# Altium integrated library Microchip Power Management CPU-System Supervisor.IntLib: 428 symbols (part 11 of 12)
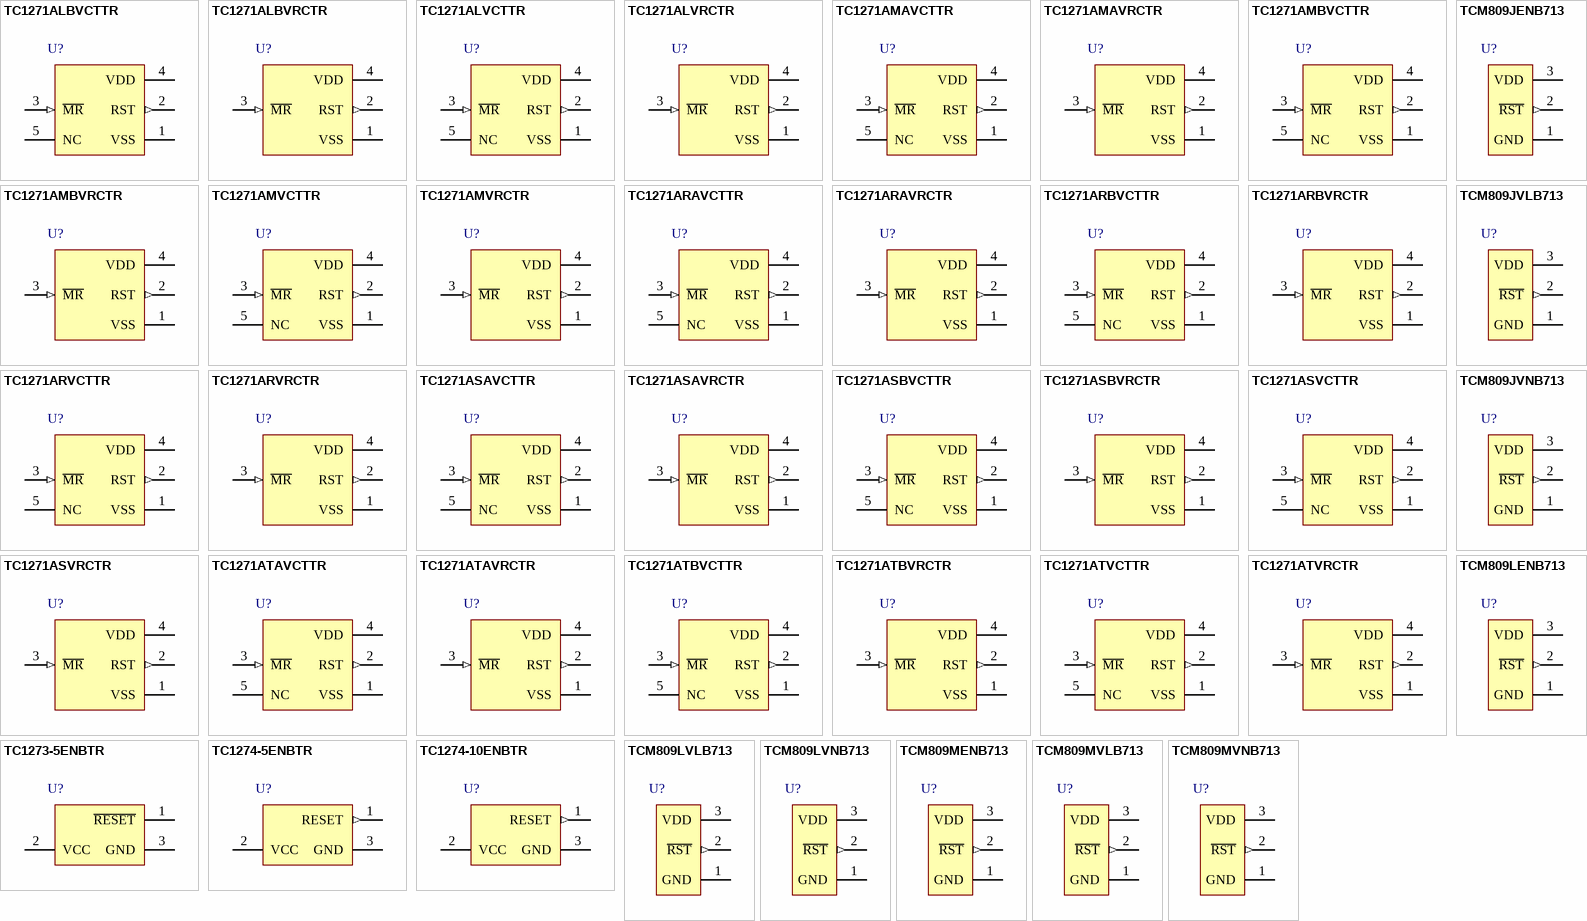
[diagram p20: symbols TC1271ALBVCTTR to TCM809MVNB713]

## TC1271ATBVRCTR
designator U?
Voltage Supervisor with Manual Reset Input, 4-Pin SOT-143, VTRIP:3.00V (min.) / 3.08V (typ.) / 3.15V (max.), Tape and Reel; Manufacturer: Microchip; PartNumber: TC1271ATBVRCTR; DatasheetVersion: revB, Jun-2007; PackageVersion: revBB, Aug-2009; PackageReference: SOT-143-RC4; PackageDescription: 4-Lead Plastic Small Outline Transistor (RC) [SOT-143]; Mounting Technology: Surface Mount; Code_IPC: SOT143; ComponentLink1Description: Manufacturer URL; ComponentLink1URL: http://www.microchip.com/; ComponentLink2Description: Datasheet; ComponentLink2URL: http://ww1.microchip.com/downloads/en/DeviceDoc/22035b.pdf; ComponentLink3Description: Package Specification; ComponentLink3URL: http://www.microchip.com/stellent/groups/techpub_sg/documents/packagingspec/en012702.pdf
footprint SOT-143-RC4_N (SOT143, 4-Leads, Body 2.9x1.3mm, Pitch 1.9mm, Lead Span 2.4mm, IPC Medium Density)
footprint SOT-143-RC4_L (SOT143, 4-Leads, Body 2.9x1.3mm, Pitch 1.9mm, Lead Span 2.4mm, IPC High Density)
footprint SOT-143-RC4_M (SOT143, 4-Leads, Body 2.9x1.3mm, Pitch 1.9mm, Lead Span 2.4mm, IPC Low Density)
pins: 1 VSS (power), 2 RST (out), 3 ~{MR} (in), 4 VDD (power)

## TC1271ATVCTTR
designator U?
Voltage Supervisor with Manual Reset Input, 5-Pin SOT-23, VTRIP:3.00V (min.) / 3.08V (typ.) / 3.15V (max.), Tape and Reel; Manufacturer: Microchip; PartNumber: TC1271ATVCTTR; DatasheetVersion: revB, Jun-2007; PackageVersion: revBB, Aug-2009; PackageReference: SOT-23-CT5; PackageDescription: 5-Lead Plastic Small Outline Transistor (CT) [SOT-23]; Supplier 1: Digi-Key; Supplier Part Number 1: TC1271ATVCTTR-ND; Supplier 2: Mouser; Supplier Part Number 2: 579-TC1271ATVCTTR; Mounting Technology: Surface Mount; Code_IPC: SOT23-5; ComponentLink1Description: Manufacturer URL; ComponentLink1URL: http://www.microchip.com/; ComponentLink2Description: Datasheet; ComponentLink2URL: http://ww1.microchip.com/downloads/en/DeviceDoc/22035b.pdf; ComponentLink3Description: Package Specification; ComponentLink3URL: http://www.microchip.com/stellent/groups/techpub_sg/documents/packagingspec/en012702.pdf
footprint SOT-23-CT5_N (SOT23, 5-Leads, Body 2.9x1.6mm, Pitch 0.95mm, Lead Span 2.7mm, IPC Medium Density)
footprint SOT-23-CT5_L (SOT23, 5-Leads, Body 2.9x1.6mm, Pitch 0.95mm, Lead Span 2.7mm, IPC High Density)
footprint SOT-23-CT5_M (SOT23, 5-Leads, Body 2.9x1.6mm, Pitch 0.95mm, Lead Span 2.7mm, IPC Low Density)
pins: 1 VSS (power), 2 RST (out), 3 ~{MR} (in), 4 VDD (power), 5 NC

## TC1271ATVRCTR
designator U?
Voltage Supervisor with Manual Reset Input, 4-Pin SOT-143, VTRIP:3.00V (min.) / 3.08V (typ.) / 3.15V (max.), Tape and Reel; Manufacturer: Microchip; PartNumber: TC1271ATVRCTR; DatasheetVersion: revB, Jun-2007; PackageVersion: revBB, Aug-2009; PackageReference: SOT-143-RC4; PackageDescription: 4-Lead Plastic Small Outline Transistor (RC) [SOT-143]; Supplier 1: Digi-Key; Supplier Part Number 1: TC1271ATVRCTR-ND; Supplier 2: Mouser; Supplier Part Number 2: 579-TC1271ATVRCTR; Mounting Technology: Surface Mount; Code_IPC: SOT143; ComponentLink1Description: Manufacturer URL; ComponentLink1URL: http://www.microchip.com/; ComponentLink2Description: Datasheet; ComponentLink2URL: http://ww1.microchip.com/downloads/en/DeviceDoc/22035b.pdf; ComponentLink3Description: Package Specification; ComponentLink3URL: http://www.microchip.com/stellent/groups/techpub_sg/documents/packagingspec/en012702.pdf
footprint SOT-143-RC4_N (SOT143, 4-Leads, Body 2.9x1.3mm, Pitch 1.9mm, Lead Span 2.4mm, IPC Medium Density)
footprint SOT-143-RC4_L (SOT143, 4-Leads, Body 2.9x1.3mm, Pitch 1.9mm, Lead Span 2.4mm, IPC High Density)
footprint SOT-143-RC4_M (SOT143, 4-Leads, Body 2.9x1.3mm, Pitch 1.9mm, Lead Span 2.4mm, IPC Low Density)
pins: 1 VSS (power), 2 RST (out), 3 ~{MR} (in), 4 VDD (power)

## TC1273-5ENBTR
designator U?
Reset Monitors for 5 V Systems, 17 uA Supply Current, Open Drain Output, 1.2 to 5.5 V, -40 to 85 degC, 3-pin SOT-23 (TT3), Tape and Reel; Manufacturer: Microchip; PartNumber: TC1273-5ENBTR; DatasheetVersion: Rev. C; PackageVersion: C04-104B; PackageReference: SOT-23-TT3; PackageDescription: 3-Lead Plastic Small Outline Transistor, 2.9 x 1.3 mm Body, 0.95 mm Pitch; Supplier 1: Digi-Key; Supplier Part Number 1: TC1273-5ENBTR-ND; Supplier 2: Digi-Key; Supplier Part Number 2: TC1273-5ENBCT-ND; Supplier 3: Digi-Key; Supplier Part Number 3: TC1273-5ENBDKR-ND; Supplier 4: Mouser; Supplier Part Number 4: 579-TC1273-5ENBTR; Mounting Technology: Surface Mount; ComponentLink1Description: Manufacturer URL; ComponentLink1URL: http://www.microchip.com; ComponentLink2Description: Datasheet; ComponentLink2URL: http://ww1.microchip.com/downloads/en/DeviceDoc/21382c.pdf; ComponentLink3Description: Package Specification; ComponentLink3URL: http://www.microchip.com/stellent/groups/techpub_sg/documents/packagingspec/en012702.pdf; ComponentLink4Description: Product URL; ComponentLink4URL: http://www.microchip.com/TC1273
footprint MCHP-SOT-23-TT3_N (SOT23, 3-Leads, Body 2.86x1.28mm, Pitch 0.95mm, IPC Medium Density)
footprint MCHP-SOT-23-TT3_L (SOT23, 3-Leads, Body 2.86x1.28mm, Pitch 0.95mm, IPC High Density)
footprint MCHP-SOT-23-TT3_M (SOT23, 3-Leads, Body 2.86x1.28mm, Pitch 0.95mm, IPC Low Density)
pins: 1 ~{RESET} (oc), 2 VCC (power), 3 GND (power)

## TC1274-5ENBTR
designator U?
Reset Monitors for 5 V Systems, 17 uA Supply Current, Push-Pull Output, 1.8 to 5.5 V, -40 to 85 degC, 3-pin SOT-23 (TT3), Tape and Reel; Manufacturer: Microchip; PartNumber: TC1274-5ENBTR; DatasheetVersion: Rev. C; PackageVersion: C04-104B; PackageReference: SOT-23-TT3; PackageDescription: 3-Lead Plastic Small Outline Transistor, 2.9 x 1.3 mm Body, 0.95 mm Pitch; Supplier 1: Digi-Key; Supplier Part Number 1: TC1274-5ENBTR-ND; Supplier 2: Digi-Key; Supplier Part Number 2: TC1274-5ENBCT-ND; Supplier 3: Digi-Key; Supplier Part Number 3: TC1274-5ENBDKR-ND; Supplier 4: Mouser; Supplier Part Number 4: 579-TC1274-5ENBTR; Mounting Technology: Surface Mount; ComponentLink1Description: Manufacturer URL; ComponentLink1URL: http://www.microchip.com; ComponentLink2Description: Datasheet; ComponentLink2URL: http://ww1.microchip.com/downloads/en/DeviceDoc/21382c.pdf; ComponentLink3Description: Package Specification; ComponentLink3URL: http://www.microchip.com/stellent/groups/techpub_sg/documents/packagingspec/en012702.pdf; ComponentLink4Description: Product URL; ComponentLink4URL: http://www.microchip.com/TC1274
footprint MCHP-SOT-23-TT3_N (SOT23, 3-Leads, Body 2.86x1.28mm, Pitch 0.95mm, IPC Medium Density)
footprint MCHP-SOT-23-TT3_L (SOT23, 3-Leads, Body 2.86x1.28mm, Pitch 0.95mm, IPC High Density)
footprint MCHP-SOT-23-TT3_M (SOT23, 3-Leads, Body 2.86x1.28mm, Pitch 0.95mm, IPC Low Density)
pins: 1 RESET (out) "RESET Output", 2 VCC (power) "Supply voltage (1.8V to 5.5V TC1274)", 3 GND (power) "Ground"

## TC1274-10ENBTR
designator U?
Reset Monitors for 5 V Systems, 17 uA Supply Current, Push-Pull Output, 1.8 to 5.5 V, -40 to 85 degC, 3-pin SOT-23 (TT3), Tape and Reel; Manufacturer: Microchip; PartNumber: TC1274-10ENBTR; DatasheetVersion: Rev. C; PackageVersion: C04-104B; PackageReference: SOT-23-TT3; PackageDescription: 3-Lead Plastic Small Outline Transistor, 2.9 x 1.3 mm Body, 0.95 mm Pitch; Supplier 1: Digi-Key; Supplier Part Number 1: TC1274-10ENBTR-ND; Supplier 2: Mouser; Supplier Part Number 2: 579-TC1274-10ENBTR; Mounting Technology: Surface Mount; ComponentLink1Description: Manufacturer URL; ComponentLink1URL: http://www.microchip.com; ComponentLink2Description: Datasheet; ComponentLink2URL: http://ww1.microchip.com/downloads/en/DeviceDoc/21382c.pdf; ComponentLink3Description: Package Specification; ComponentLink3URL: http://www.microchip.com/stellent/groups/techpub_sg/documents/packagingspec/en012702.pdf; ComponentLink4Description: Product URL; ComponentLink4URL: http://www.microchip.com/TC1274
footprint MCHP-SOT-23-TT3_N (SOT23, 3-Leads, Body 2.86x1.28mm, Pitch 0.95mm, IPC Medium Density)
footprint MCHP-SOT-23-TT3_L (SOT23, 3-Leads, Body 2.86x1.28mm, Pitch 0.95mm, IPC High Density)
footprint MCHP-SOT-23-TT3_M (SOT23, 3-Leads, Body 2.86x1.28mm, Pitch 0.95mm, IPC Low Density)
pins: 1 RESET (out) "RESET Output", 2 VCC (power) "Supply voltage (1.8V to 5.5V TC1274)", 3 GND (power) "Ground"

## TCM809JENB713
designator U?
3-Pin Microcontroller Reset Monitors, 3-Pin SOT-23, Extended Temperature; Manufacturer: Microchip; PartNumber: TCM809JENB713; DatasheetVersion: revD, Mar-2005; PackageVersion: revBB, Aug-2009; PackageReference: SOT-23-NB3; PackageDescription: 3-Lead Plastic Small Outline Transistor (NB) [SOT-23]; Supplier 1: Digi-Key; Supplier Part Number 1: TCM809JENB713-ND; Supplier 2: Newark; Supplier Part Number 2: 27C9023; Supplier 3: Mouser; Supplier Part Number 3: 579-TCM809JENB713; Mounting Technology: Surface Mount; Code_IPC: SOT23-3; ComponentLink1Description: Manufacturer URL; ComponentLink1URL: http://www.microchip.com/; ComponentLink2Description: Datasheet; ComponentLink2URL: http://ww1.microchip.com/downloads/en/DeviceDoc/21661d.pdf; ComponentLink3Description: Package Specification; ComponentLink3URL: http://www.microchip.com/stellent/groups/techpub_sg/documents/packagingspec/en012702.pdf
footprint SOT-23-NB3_N (SOT23, 3-Leads, Body 2.9x1.3mm, Pitch 0.95mm, Lead Span 2.4mm, IPC Medium Density)
footprint SOT-23-NB3_L (SOT23, 3-Leads, Body 2.9x1.3mm, Pitch 0.95mm, Lead Span 2.4mm, IPC High Density)
footprint SOT-23-NB3_M (SOT23, 3-Leads, Body 2.9x1.3mm, Pitch 0.95mm, Lead Span 2.4mm, IPC Low Density)
pins: 1 GND (power), 2 ~{RST} (out), 3 VDD (power)

## TCM809JVLB713
designator U?
3-Pin Microcontroller Reset Monitors, 3-Pin SC-70; Manufacturer: Microchip; PartNumber: TCM809JVLB713; DatasheetVersion: revD, Mar-2005; PackageVersion: revBB, Aug-2009; PackageReference: SC70-LB3; PackageDescription: 3-Lead Plastic Small Outline Transistor (LB) [SC70]; Supplier 1: Digi-Key; Supplier Part Number 1: TCM809JVLB713TR-ND; Supplier 2: Digi-Key; Supplier Part Number 2: TCM809JVLB713CT-ND; Supplier 3: Digi-Key; Supplier Part Number 3: TCM809JVLB713DKR-ND; Supplier 4: Farnell; Supplier Part Number 4: 1840930; Supplier 5: Newark; Supplier Part Number 5: 31T1352; Supplier 6: Newark; Supplier Part Number 6: 92C5458; Supplier 7: Mouser; Supplier Part Number 7: 579-TCM809JVLB713; Mounting Technology: Surface Mount; ComponentLink1Description: Manufacturer URL; ComponentLink1URL: http://www.microchip.com/; ComponentLink2Description: Datasheet; ComponentLink2URL: http://ww1.microchip.com/downloads/en/DeviceDoc/21661d.pdf; ComponentLink3Description: Package Specification; ComponentLink3URL: http://www.microchip.com/stellent/groups/techpub_sg/documents/packagingspec/en012702.pdf
footprint SC70-LB3_N (SOT323, 3-Leads, Body 2.0x1.3mm, Pitch 0.65mm, Lead Span 2.1mm, IPC Medium Density)
footprint SC70-LB3_L (SOT323, 3-Leads, Body 2.0x1.3mm, Pitch 0.65mm, Lead Span 2.1mm, IPC High Density)
footprint SC70-LB3_M (SOT323, 3-Leads, Body 2.0x1.3mm, Pitch 0.65mm, Lead Span 2.1mm, IPC Low Density)
pins: 1 GND (power), 2 ~{RST} (out), 3 VDD (power)

## TCM809JVNB713
designator U?
3-Pin Microcontroller Reset Monitors, 3-Pin SOT-23; Manufacturer: Microchip; PartNumber: TCM809JVNB713; DatasheetVersion: revD, Mar-2005; PackageVersion: revBB, Aug-2009; PackageReference: SOT-23-NB3; PackageDescription: 3-Lead Plastic Small Outline Transistor (NB) [SOT-23]; Supplier 1: Digi-Key; Supplier Part Number 1: TCM809JVNB713TR-ND; Supplier 2: Digi-Key; Supplier Part Number 2: TCM809JVNB713CT-ND; Supplier 3: Digi-Key; Supplier Part Number 3: TCM809JVNB713DKR-ND; Supplier 4: Farnell; Supplier Part Number 4: 1840922RL; Supplier 5: Farnell; Supplier Part Number 5: 1840922; Supplier 6: Newark; Supplier Part Number 6: 96K3997; Supplier 7: Mouser; Supplier Part Number 7: 579-TCM809JVNB713; Mounting Technology: Surface Mount; Code_IPC: SOT23-3; ComponentLink1Description: Manufacturer URL; ComponentLink1URL: http://www.microchip.com/; ComponentLink2Description: Datasheet; ComponentLink2URL: http://ww1.microchip.com/downloads/en/DeviceDoc/21661d.pdf; ComponentLink3Description: Package Specification; ComponentLink3URL: http://www.microchip.com/stellent/groups/techpub_sg/documents/packagingspec/en012702.pdf
footprint SOT-23-NB3_N (SOT23, 3-Leads, Body 2.9x1.3mm, Pitch 0.95mm, Lead Span 2.4mm, IPC Medium Density)
footprint SOT-23-NB3_L (SOT23, 3-Leads, Body 2.9x1.3mm, Pitch 0.95mm, Lead Span 2.4mm, IPC High Density)
footprint SOT-23-NB3_M (SOT23, 3-Leads, Body 2.9x1.3mm, Pitch 0.95mm, Lead Span 2.4mm, IPC Low Density)
pins: 1 GND (power), 2 ~{RST} (out), 3 VDD (power)

## TCM809LENB713
designator U?
3-Pin Microcontroller Reset Monitors, 3-Pin SOT-23, Extended Temperature; Manufacturer: Microchip; PartNumber: TCM809LENB713; DatasheetVersion: revD, Mar-2005; PackageVersion: revBB, Aug-2009; PackageReference: SOT-23-NB3; PackageDescription: 3-Lead Plastic Small Outline Transistor (NB) [SOT-23]; Supplier 1: Digi-Key; Supplier Part Number 1: TCM809LENB713TR-ND; Supplier 2: Digi-Key; Supplier Part Number 2: TCM809LENB713CT-ND; Supplier 3: Digi-Key; Supplier Part Number 3: TCM809LENB713DKR-ND; Supplier 4: Farnell; Supplier Part Number 4: 9762744; Supplier 5: Farnell; Supplier Part Number 5: 9762744RL; Supplier 6: Newark; Supplier Part Number 6: 24M8090; Supplier 7: Newark; Supplier Part Number 7: 92C2490; Supplier 8: Mouser; Supplier Part Number 8: 579-TCM809LENB713; Mounting Technology: Surface Mount; Code_IPC: SOT23-3; ComponentLink1Description: Manufacturer URL; ComponentLink1URL: http://www.microchip.com/; ComponentLink2Description: Datasheet; ComponentLink2URL: http://ww1.microchip.com/downloads/en/DeviceDoc/21661d.pdf; ComponentLink3Description: Package Specification; ComponentLink3URL: http://www.microchip.com/stellent/groups/techpub_sg/documents/packagingspec/en012702.pdf
footprint SOT-23-NB3_N (SOT23, 3-Leads, Body 2.9x1.3mm, Pitch 0.95mm, Lead Span 2.4mm, IPC Medium Density)
footprint SOT-23-NB3_L (SOT23, 3-Leads, Body 2.9x1.3mm, Pitch 0.95mm, Lead Span 2.4mm, IPC High Density)
footprint SOT-23-NB3_M (SOT23, 3-Leads, Body 2.9x1.3mm, Pitch 0.95mm, Lead Span 2.4mm, IPC Low Density)
pins: 1 GND (power), 2 ~{RST} (out), 3 VDD (power)

## TCM809LVLB713
designator U?
3-Pin Microcontroller Reset Monitors, 3-Pin SC-70; Manufacturer: Microchip; PartNumber: TCM809LVLB713; DatasheetVersion: revD, Mar-2005; PackageVersion: revBB, Aug-2009; PackageReference: SC70-LB3; PackageDescription: 3-Lead Plastic Small Outline Transistor (LB) [SC70]; Supplier 1: Digi-Key; Supplier Part Number 1: TCM809LVLB713TR-ND; Supplier 2: Digi-Key; Supplier Part Number 2: TCM809LVLB713CT-ND; Supplier 3: Digi-Key; Supplier Part Number 3: TCM809LVLB713DKR-ND; Supplier 4: Mouser; Supplier Part Number 4: 579-TCM809LVLB713; Mounting Technology: Surface Mount; ComponentLink1Description: Manufacturer URL; ComponentLink1URL: http://www.microchip.com/; ComponentLink2Description: Datasheet; ComponentLink2URL: http://ww1.microchip.com/downloads/en/DeviceDoc/21661d.pdf; ComponentLink3Description: Package Specification; ComponentLink3URL: http://www.microchip.com/stellent/groups/techpub_sg/documents/packagingspec/en012702.pdf
footprint SC70-LB3_N (SOT323, 3-Leads, Body 2.0x1.3mm, Pitch 0.65mm, Lead Span 2.1mm, IPC Medium Density)
footprint SC70-LB3_L (SOT323, 3-Leads, Body 2.0x1.3mm, Pitch 0.65mm, Lead Span 2.1mm, IPC High Density)
footprint SC70-LB3_M (SOT323, 3-Leads, Body 2.0x1.3mm, Pitch 0.65mm, Lead Span 2.1mm, IPC Low Density)
pins: 1 GND (power), 2 ~{RST} (out), 3 VDD (power)

## TCM809LVNB713
designator U?
3-Pin Microcontroller Reset Monitors, 3-Pin SOT-23; Manufacturer: Microchip; PartNumber: TCM809LVNB713; DatasheetVersion: revD, Mar-2005; PackageVersion: revBB, Aug-2009; PackageReference: SOT-23-NB3; PackageDescription: 3-Lead Plastic Small Outline Transistor (NB) [SOT-23]; Supplier 1: Digi-Key; Supplier Part Number 1: TCM809LVNB713TR-ND; Supplier 2: Digi-Key; Supplier Part Number 2: TCM809LVNB713CT-ND; Supplier 3: Digi-Key; Supplier Part Number 3: TCM809LVNB713DKR-ND; Supplier 4: Farnell; Supplier Part Number 4: 1840928; Supplier 5: Newark; Supplier Part Number 5: 92C5460; Supplier 6: Newark; Supplier Part Number 6: 31T1353; Supplier 7: Mouser; Supplier Part Number 7: 579-TCM809LVNB713; Mounting Technology: Surface Mount; Code_IPC: SOT23-3; ComponentLink1Description: Manufacturer URL; ComponentLink1URL: http://www.microchip.com/; ComponentLink2Description: Datasheet; ComponentLink2URL: http://ww1.microchip.com/downloads/en/DeviceDoc/21661d.pdf; ComponentLink3Description: Package Specification; ComponentLink3URL: http://www.microchip.com/stellent/groups/techpub_sg/documents/packagingspec/en012702.pdf
footprint SOT-23-NB3_N (SOT23, 3-Leads, Body 2.9x1.3mm, Pitch 0.95mm, Lead Span 2.4mm, IPC Medium Density)
footprint SOT-23-NB3_L (SOT23, 3-Leads, Body 2.9x1.3mm, Pitch 0.95mm, Lead Span 2.4mm, IPC High Density)
footprint SOT-23-NB3_M (SOT23, 3-Leads, Body 2.9x1.3mm, Pitch 0.95mm, Lead Span 2.4mm, IPC Low Density)
pins: 1 GND (power), 2 ~{RST} (out), 3 VDD (power)

## TCM809MENB713
designator U?
3-Pin Microcontroller Reset Monitors, 3-Pin SOT-23, Extended Temperature; Manufacturer: Microchip; PartNumber: TCM809MENB713; DatasheetVersion: revD, Mar-2005; PackageVersion: revBB, Aug-2009; PackageReference: SOT-23-NB3; PackageDescription: 3-Lead Plastic Small Outline Transistor (NB) [SOT-23]; Supplier 1: Digi-Key; Supplier Part Number 1: TCM809MENB713TR-ND; Supplier 2: Digi-Key; Supplier Part Number 2: TCM809MENB713CT-ND; Supplier 3: Digi-Key; Supplier Part Number 3: TCM809MENB713DKR-ND; Supplier 4: Newark; Supplier Part Number 4: 96K3998; Supplier 5: Mouser; Supplier Part Number 5: 579-TCM809MENB713; Mounting Technology: Surface Mount; Code_IPC: SOT23-3; ComponentLink1Description: Manufacturer URL; ComponentLink1URL: http://www.microchip.com/; ComponentLink2Description: Datasheet; ComponentLink2URL: http://ww1.microchip.com/downloads/en/DeviceDoc/21661d.pdf; ComponentLink3Description: Package Specification; ComponentLink3URL: http://www.microchip.com/stellent/groups/techpub_sg/documents/packagingspec/en012702.pdf
footprint SOT-23-NB3_N (SOT23, 3-Leads, Body 2.9x1.3mm, Pitch 0.95mm, Lead Span 2.4mm, IPC Medium Density)
footprint SOT-23-NB3_L (SOT23, 3-Leads, Body 2.9x1.3mm, Pitch 0.95mm, Lead Span 2.4mm, IPC High Density)
footprint SOT-23-NB3_M (SOT23, 3-Leads, Body 2.9x1.3mm, Pitch 0.95mm, Lead Span 2.4mm, IPC Low Density)
pins: 1 GND (power), 2 ~{RST} (out), 3 VDD (power)

## TCM809MVLB713
designator U?
3-Pin Microcontroller Reset Monitors, 3-Pin SC-70; Manufacturer: Microchip; PartNumber: TCM809MVLB713; DatasheetVersion: revD, Mar-2005; PackageVersion: revBB, Aug-2009; PackageReference: SC70-LB3; PackageDescription: 3-Lead Plastic Small Outline Transistor (LB) [SC70]; Supplier 1: Digi-Key; Supplier Part Number 1: TCM809MVLB713TR-ND; Supplier 2: Digi-Key; Supplier Part Number 2: TCM809MVLB713CT-ND; Supplier 3: Digi-Key; Supplier Part Number 3: TCM809MVLB713DKR-ND; Supplier 4: Farnell; Supplier Part Number 4: 1840923; Supplier 5: Newark; Supplier Part Number 5: 92C5462; Supplier 6: Newark; Supplier Part Number 6: 31T1354; Supplier 7: Mouser; Supplier Part Number 7: 579-TCM809MVLB713; Mounting Technology: Surface Mount; ComponentLink1Description: Manufacturer URL; ComponentLink1URL: http://www.microchip.com/; ComponentLink2Description: Datasheet; ComponentLink2URL: http://ww1.microchip.com/downloads/en/DeviceDoc/21661d.pdf; ComponentLink3Description: Package Specification; ComponentLink3URL: http://www.microchip.com/stellent/groups/techpub_sg/documents/packagingspec/en012702.pdf
footprint SC70-LB3_N (SOT323, 3-Leads, Body 2.0x1.3mm, Pitch 0.65mm, Lead Span 2.1mm, IPC Medium Density)
footprint SC70-LB3_L (SOT323, 3-Leads, Body 2.0x1.3mm, Pitch 0.65mm, Lead Span 2.1mm, IPC High Density)
footprint SC70-LB3_M (SOT323, 3-Leads, Body 2.0x1.3mm, Pitch 0.65mm, Lead Span 2.1mm, IPC Low Density)
pins: 1 GND (power), 2 ~{RST} (out), 3 VDD (power)

## TCM809MVNB713
designator U?
3-Pin Microcontroller Reset Monitors, 3-Pin SOT-23; Manufacturer: Microchip; PartNumber: TCM809MVNB713; DatasheetVersion: revD, Mar-2005; PackageVersion: revBB, Aug-2009; PackageReference: SOT-23-NB3; PackageDescription: 3-Lead Plastic Small Outline Transistor (NB) [SOT-23]; Supplier 1: Digi-Key; Supplier Part Number 1: TCM809MVNB713TR-ND; Supplier 2: Digi-Key; Supplier Part Number 2: TCM809MVNB713CT-ND; Supplier 3: Digi-Key; Supplier Part Number 3: TCM809MVNB713DKR-ND; Supplier 4: Farnell; Supplier Part Number 4: 1840925; Supplier 5: Farnell; Supplier Part Number 5: 1840925RL; Supplier 6: Newark; Supplier Part Number 6: 92C5463; Supplier 7: Newark; Supplier Part Number 7: 31T1355; Supplier 8: Mouser; Supplier Part Number 8: 579-TCM809MVNB713; Mounting Technology: Surface Mount; Code_IPC: SOT23-3; ComponentLink1Description: Manufacturer URL; ComponentLink1URL: http://www.microchip.com/; ComponentLink2Description: Datasheet; ComponentLink2URL: http://ww1.microchip.com/downloads/en/DeviceDoc/21661d.pdf; ComponentLink3Description: Package Specification; ComponentLink3URL: http://www.microchip.com/stellent/groups/techpub_sg/documents/packagingspec/en012702.pdf
footprint SOT-23-NB3_N (SOT23, 3-Leads, Body 2.9x1.3mm, Pitch 0.95mm, Lead Span 2.4mm, IPC Medium Density)
footprint SOT-23-NB3_L (SOT23, 3-Leads, Body 2.9x1.3mm, Pitch 0.95mm, Lead Span 2.4mm, IPC High Density)
footprint SOT-23-NB3_M (SOT23, 3-Leads, Body 2.9x1.3mm, Pitch 0.95mm, Lead Span 2.4mm, IPC Low Density)
pins: 1 GND (power), 2 ~{RST} (out), 3 VDD (power)

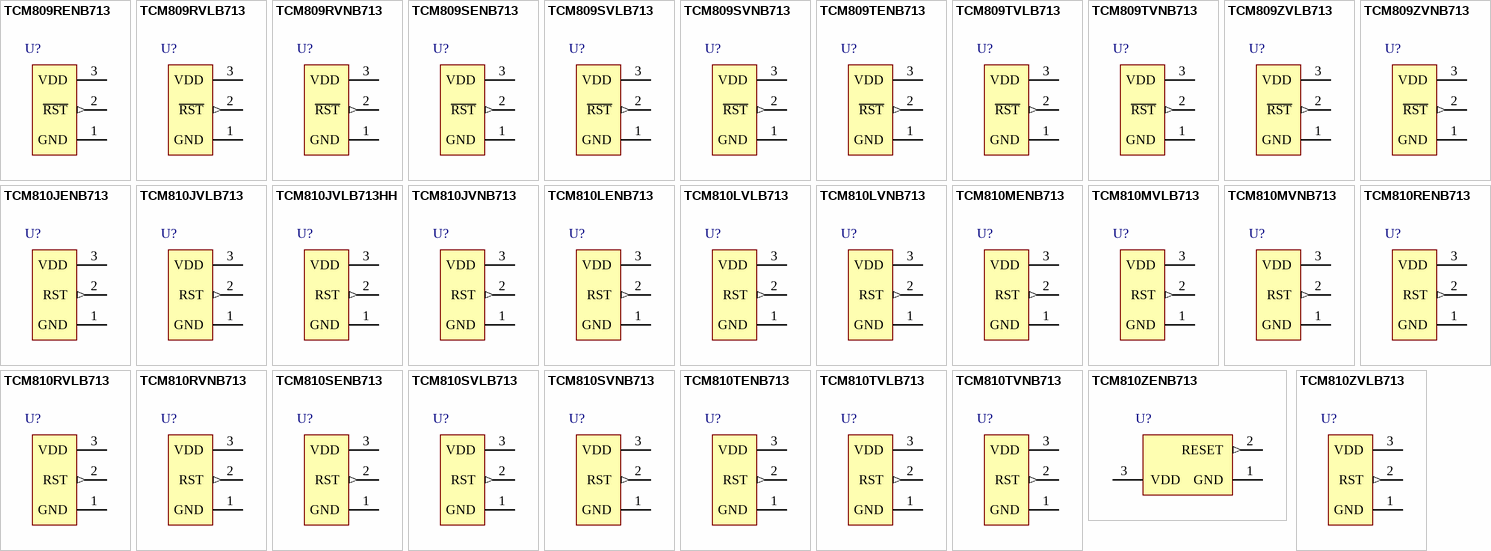
[diagram p10: symbols TCM809RENB713 to TCM810ZVLB713]

## TCM809RENB713
designator U?
3-Pin Microcontroller Reset Monitors, 3-Pin SOT-23, Extended Temperature; Manufacturer: Microchip; PartNumber: TCM809RENB713; DatasheetVersion: revD, Mar-2005; PackageVersion: revBB, Aug-2009; PackageReference: SOT-23-NB3; PackageDescription: 3-Lead Plastic Small Outline Transistor (NB) [SOT-23]; Supplier 1: Digi-Key; Supplier Part Number 1: TCM809RENB713TR-ND; Supplier 2: Digi-Key; Supplier Part Number 2: TCM809RENB713CT-ND; Supplier 3: Digi-Key; Supplier Part Number 3: TCM809RENB713DKR-ND; Supplier 4: Farnell; Supplier Part Number 4: 9762752RL; Supplier 5: Farnell; Supplier Part Number 5: 9762752; Supplier 6: Newark; Supplier Part Number 6: 92C2492; Supplier 7: Mouser; Supplier Part Number 7: 579-TCM809RENB713; Mounting Technology: Surface Mount; Code_IPC: SOT23-3; ComponentLink1Description: Manufacturer URL; ComponentLink1URL: http://www.microchip.com/; ComponentLink2Description: Datasheet; ComponentLink2URL: http://ww1.microchip.com/downloads/en/DeviceDoc/21661d.pdf; ComponentLink3Description: Package Specification; ComponentLink3URL: http://www.microchip.com/stellent/groups/techpub_sg/documents/packagingspec/en012702.pdf
footprint SOT-23-NB3_N (SOT23, 3-Leads, Body 2.9x1.3mm, Pitch 0.95mm, Lead Span 2.4mm, IPC Medium Density)
footprint SOT-23-NB3_L (SOT23, 3-Leads, Body 2.9x1.3mm, Pitch 0.95mm, Lead Span 2.4mm, IPC High Density)
footprint SOT-23-NB3_M (SOT23, 3-Leads, Body 2.9x1.3mm, Pitch 0.95mm, Lead Span 2.4mm, IPC Low Density)
pins: 1 GND (power), 2 ~{RST} (out), 3 VDD (power)

## TCM809RVLB713
designator U?
3-Pin Microcontroller Reset Monitors, 3-Pin SC-70; Manufacturer: Microchip; PartNumber: TCM809RVLB713; DatasheetVersion: revD, Mar-2005; PackageVersion: revBB, Aug-2009; PackageReference: SC70-LB3; PackageDescription: 3-Lead Plastic Small Outline Transistor (LB) [SC70]; Supplier 1: Digi-Key; Supplier Part Number 1: TCM809RVLB713TR-ND; Supplier 2: Digi-Key; Supplier Part Number 2: TCM809RVLB713CT-ND; Supplier 3: Digi-Key; Supplier Part Number 3: TCM809RVLB713DKR-ND; Supplier 4: Farnell; Supplier Part Number 4: 1212922; Supplier 5: Farnell; Supplier Part Number 5: 1212922RL; Supplier 6: Newark; Supplier Part Number 6: 01M9201; Supplier 7: Newark; Supplier Part Number 7: 92C5464; Supplier 8: Mouser; Supplier Part Number 8: 579-TCM809RVLB713; Mounting Technology: Surface Mount; ComponentLink1Description: Manufacturer URL; ComponentLink1URL: http://www.microchip.com/; ComponentLink2Description: Datasheet; ComponentLink2URL: http://ww1.microchip.com/downloads/en/DeviceDoc/21661d.pdf; ComponentLink3Description: Package Specification; ComponentLink3URL: http://www.microchip.com/stellent/groups/techpub_sg/documents/packagingspec/en012702.pdf
footprint SC70-LB3_N (SOT323, 3-Leads, Body 2.0x1.3mm, Pitch 0.65mm, Lead Span 2.1mm, IPC Medium Density)
footprint SC70-LB3_L (SOT323, 3-Leads, Body 2.0x1.3mm, Pitch 0.65mm, Lead Span 2.1mm, IPC High Density)
footprint SC70-LB3_M (SOT323, 3-Leads, Body 2.0x1.3mm, Pitch 0.65mm, Lead Span 2.1mm, IPC Low Density)
pins: 1 GND (power), 2 ~{RST} (out), 3 VDD (power)

## TCM809RVNB713
designator U?
3-Pin Microcontroller Reset Monitors, 3-Pin SOT-23; Manufacturer: Microchip; PartNumber: TCM809RVNB713; DatasheetVersion: revD, Mar-2005; PackageVersion: revBB, Aug-2009; PackageReference: SOT-23-NB3; PackageDescription: 3-Lead Plastic Small Outline Transistor (NB) [SOT-23]; Supplier 1: Digi-Key; Supplier Part Number 1: TCM809RVNB713TR-ND; Supplier 2: Digi-Key; Supplier Part Number 2: TCM809RVNB713CT-ND; Supplier 3: Digi-Key; Supplier Part Number 3: TCM809RVNB713DKR-ND; Supplier 4: Farnell; Supplier Part Number 4: 1840911; Supplier 5: Farnell; Supplier Part Number 5: 1840911RL; Supplier 6: Newark; Supplier Part Number 6: 92C5465; Supplier 7: Newark; Supplier Part Number 7: 31T1356; Supplier 8: Mouser; Supplier Part Number 8: 579-TCM809RVNB713; Mounting Technology: Surface Mount; Code_IPC: SOT23-3; ComponentLink1Description: Manufacturer URL; ComponentLink1URL: http://www.microchip.com/; ComponentLink2Description: Datasheet; ComponentLink2URL: http://ww1.microchip.com/downloads/en/DeviceDoc/21661d.pdf; ComponentLink3Description: Package Specification; ComponentLink3URL: http://www.microchip.com/stellent/groups/techpub_sg/documents/packagingspec/en012702.pdf
footprint SOT-23-NB3_N (SOT23, 3-Leads, Body 2.9x1.3mm, Pitch 0.95mm, Lead Span 2.4mm, IPC Medium Density)
footprint SOT-23-NB3_L (SOT23, 3-Leads, Body 2.9x1.3mm, Pitch 0.95mm, Lead Span 2.4mm, IPC High Density)
footprint SOT-23-NB3_M (SOT23, 3-Leads, Body 2.9x1.3mm, Pitch 0.95mm, Lead Span 2.4mm, IPC Low Density)
pins: 1 GND (power), 2 ~{RST} (out), 3 VDD (power)

## TCM809SENB713
designator U?
3-Pin Microcontroller Reset Monitors, 3-Pin SOT-23, Extended Temperature; Manufacturer: Microchip; PartNumber: TCM809SENB713; DatasheetVersion: revD, Mar-2005; PackageVersion: revBB, Aug-2009; PackageReference: SOT-23-NB3; PackageDescription: 3-Lead Plastic Small Outline Transistor (NB) [SOT-23]; Supplier 1: Digi-Key; Supplier Part Number 1: TCM809SENB713TR-ND; Supplier 2: Digi-Key; Supplier Part Number 2: TCM809SENB713CT-ND; Supplier 3: Farnell; Supplier Part Number 3: 9762760; Supplier 4: Farnell; Supplier Part Number 4: 9762760RL; Supplier 5: Newark; Supplier Part Number 5: 96K3999; Supplier 6: Mouser; Supplier Part Number 6: 579-TCM809SENB713; Mounting Technology: Surface Mount; Code_IPC: SOT23-3; ComponentLink1Description: Manufacturer URL; ComponentLink1URL: http://www.microchip.com/; ComponentLink2Description: Datasheet; ComponentLink2URL: http://ww1.microchip.com/downloads/en/DeviceDoc/21661d.pdf; ComponentLink3Description: Package Specification; ComponentLink3URL: http://www.microchip.com/stellent/groups/techpub_sg/documents/packagingspec/en012702.pdf
footprint SOT-23-NB3_N (SOT23, 3-Leads, Body 2.9x1.3mm, Pitch 0.95mm, Lead Span 2.4mm, IPC Medium Density)
footprint SOT-23-NB3_L (SOT23, 3-Leads, Body 2.9x1.3mm, Pitch 0.95mm, Lead Span 2.4mm, IPC High Density)
footprint SOT-23-NB3_M (SOT23, 3-Leads, Body 2.9x1.3mm, Pitch 0.95mm, Lead Span 2.4mm, IPC Low Density)
pins: 1 GND (power), 2 ~{RST} (out), 3 VDD (power)

## TCM809SVLB713
designator U?
3-Pin Microcontroller Reset Monitors, 3-Pin SC-70; Manufacturer: Microchip; PartNumber: TCM809SVLB713; DatasheetVersion: revD, Mar-2005; PackageVersion: revBB, Aug-2009; PackageReference: SC70-LB3; PackageDescription: 3-Lead Plastic Small Outline Transistor (LB) [SC70]; Supplier 1: Digi-Key; Supplier Part Number 1: TCM809SVLB713TR-ND; Supplier 2: Digi-Key; Supplier Part Number 2: TCM809SVLB713CT-ND; Supplier 3: Digi-Key; Supplier Part Number 3: TCM809SVLB713DKR-ND; Supplier 4: Farnell; Supplier Part Number 4: 1840912; Supplier 5: Newark; Supplier Part Number 5: 31T1357; Supplier 6: Newark; Supplier Part Number 6: 92C5466; Supplier 7: Mouser; Supplier Part Number 7: 579-TCM809SVLB713; Mounting Technology: Surface Mount; ComponentLink1Description: Manufacturer URL; ComponentLink1URL: http://www.microchip.com/; ComponentLink2Description: Datasheet; ComponentLink2URL: http://ww1.microchip.com/downloads/en/DeviceDoc/21661d.pdf; ComponentLink3Description: Package Specification; ComponentLink3URL: http://www.microchip.com/stellent/groups/techpub_sg/documents/packagingspec/en012702.pdf
footprint SC70-LB3_N (SOT323, 3-Leads, Body 2.0x1.3mm, Pitch 0.65mm, Lead Span 2.1mm, IPC Medium Density)
footprint SC70-LB3_L (SOT323, 3-Leads, Body 2.0x1.3mm, Pitch 0.65mm, Lead Span 2.1mm, IPC High Density)
footprint SC70-LB3_M (SOT323, 3-Leads, Body 2.0x1.3mm, Pitch 0.65mm, Lead Span 2.1mm, IPC Low Density)
pins: 1 GND (power), 2 ~{RST} (out), 3 VDD (power)

## TCM809SVNB713
designator U?
3-Pin Microcontroller Reset Monitors, 3-Pin SOT-23; Manufacturer: Microchip; PartNumber: TCM809SVNB713; DatasheetVersion: revD, Mar-2005; PackageVersion: revBB, Aug-2009; PackageReference: SOT-23-NB3; PackageDescription: 3-Lead Plastic Small Outline Transistor (NB) [SOT-23]; Supplier 1: Digi-Key; Supplier Part Number 1: TCM809SVNB713TR-ND; Supplier 2: Digi-Key; Supplier Part Number 2: TCM809SVNB713CT-ND; Supplier 3: Digi-Key; Supplier Part Number 3: TCM809SVNB713DKR-ND; Supplier 4: Farnell; Supplier Part Number 4: 1840914; Supplier 5: Newark; Supplier Part Number 5: 92C5467; Supplier 6: Mouser; Supplier Part Number 6: 579-TCM809SVNB713; Mounting Technology: Surface Mount; Code_IPC: SOT23-3; ComponentLink1Description: Manufacturer URL; ComponentLink1URL: http://www.microchip.com/; ComponentLink2Description: Datasheet; ComponentLink2URL: http://ww1.microchip.com/downloads/en/DeviceDoc/21661d.pdf; ComponentLink3Description: Package Specification; ComponentLink3URL: http://www.microchip.com/stellent/groups/techpub_sg/documents/packagingspec/en012702.pdf
footprint SOT-23-NB3_N (SOT23, 3-Leads, Body 2.9x1.3mm, Pitch 0.95mm, Lead Span 2.4mm, IPC Medium Density)
footprint SOT-23-NB3_L (SOT23, 3-Leads, Body 2.9x1.3mm, Pitch 0.95mm, Lead Span 2.4mm, IPC High Density)
footprint SOT-23-NB3_M (SOT23, 3-Leads, Body 2.9x1.3mm, Pitch 0.95mm, Lead Span 2.4mm, IPC Low Density)
pins: 1 GND (power), 2 ~{RST} (out), 3 VDD (power)

## TCM809TENB713
designator U?
3-Pin Microcontroller Reset Monitors, 3-Pin SOT-23, Extended Temperature; Manufacturer: Microchip; PartNumber: TCM809TENB713; DatasheetVersion: revD, Mar-2005; PackageVersion: revBB, Aug-2009; PackageReference: SOT-23-NB3; PackageDescription: 3-Lead Plastic Small Outline Transistor (NB) [SOT-23]; Supplier 1: Digi-Key; Supplier Part Number 1: TCM809TENB713TR-ND; Supplier 2: Farnell; Supplier Part Number 2: 9762779RL; Supplier 3: Farnell; Supplier Part Number 3: 9762779; Supplier 4: Newark; Supplier Part Number 4: 24M8093; Supplier 5: Newark; Supplier Part Number 5: 35C2548; Supplier 6: Mouser; Supplier Part Number 6: 579-TCM809TENB713; Mounting Technology: Surface Mount; Code_IPC: SOT23-3; ComponentLink1Description: Manufacturer URL; ComponentLink1URL: http://www.microchip.com/; ComponentLink2Description: Datasheet; ComponentLink2URL: http://ww1.microchip.com/downloads/en/DeviceDoc/21661d.pdf; ComponentLink3Description: Package Specification; ComponentLink3URL: http://www.microchip.com/stellent/groups/techpub_sg/documents/packagingspec/en012702.pdf
footprint SOT-23-NB3_N (SOT23, 3-Leads, Body 2.9x1.3mm, Pitch 0.95mm, Lead Span 2.4mm, IPC Medium Density)
footprint SOT-23-NB3_L (SOT23, 3-Leads, Body 2.9x1.3mm, Pitch 0.95mm, Lead Span 2.4mm, IPC High Density)
footprint SOT-23-NB3_M (SOT23, 3-Leads, Body 2.9x1.3mm, Pitch 0.95mm, Lead Span 2.4mm, IPC Low Density)
pins: 1 GND (power), 2 ~{RST} (out), 3 VDD (power)

## TCM809TVLB713
designator U?
3-Pin Microcontroller Reset Monitors, 3-Pin SC-70; Manufacturer: Microchip; PartNumber: TCM809TVLB713; DatasheetVersion: revD, Mar-2005; PackageVersion: revBB, Aug-2009; PackageReference: SC70-LB3; PackageDescription: 3-Lead Plastic Small Outline Transistor (LB) [SC70]; Supplier 1: Digi-Key; Supplier Part Number 1: TCM809TVLB713TR-ND; Supplier 2: Digi-Key; Supplier Part Number 2: TCM809TVLB713CT-ND; Supplier 3: Digi-Key; Supplier Part Number 3: TCM809TVLB713DKR-ND; Supplier 4: Farnell; Supplier Part Number 4: 1840917; Supplier 5: Newark; Supplier Part Number 5: 31T1358; Supplier 6: Newark; Supplier Part Number 6: 92C5468; Supplier 7: Mouser; Supplier Part Number 7: 579-TCM809TVLB713; Mounting Technology: Surface Mount; ComponentLink1Description: Manufacturer URL; ComponentLink1URL: http://www.microchip.com/; ComponentLink2Description: Datasheet; ComponentLink2URL: http://ww1.microchip.com/downloads/en/DeviceDoc/21661d.pdf; ComponentLink3Description: Package Specification; ComponentLink3URL: http://www.microchip.com/stellent/groups/techpub_sg/documents/packagingspec/en012702.pdf
footprint SC70-LB3_N (SOT323, 3-Leads, Body 2.0x1.3mm, Pitch 0.65mm, Lead Span 2.1mm, IPC Medium Density)
footprint SC70-LB3_L (SOT323, 3-Leads, Body 2.0x1.3mm, Pitch 0.65mm, Lead Span 2.1mm, IPC High Density)
footprint SC70-LB3_M (SOT323, 3-Leads, Body 2.0x1.3mm, Pitch 0.65mm, Lead Span 2.1mm, IPC Low Density)
pins: 1 GND (power), 2 ~{RST} (out), 3 VDD (power)

## TCM809TVNB713
designator U?
3-Pin Microcontroller Reset Monitors, 3-Pin SOT-23; Manufacturer: Microchip; PartNumber: TCM809TVNB713; DatasheetVersion: revD, Mar-2005; PackageVersion: revBB, Aug-2009; PackageReference: SOT-23-NB3; PackageDescription: 3-Lead Plastic Small Outline Transistor (NB) [SOT-23]; Supplier 1: Digi-Key; Supplier Part Number 1: TCM809TVNB713TR-ND; Supplier 2: Digi-Key; Supplier Part Number 2: TCM809TVNB713CT-ND; Supplier 3: Digi-Key; Supplier Part Number 3: TCM809TVNB713DKR-ND; Supplier 4: Farnell; Supplier Part Number 4: 1840919; Supplier 5: Farnell; Supplier Part Number 5: 1840919RL; Supplier 6: Newark; Supplier Part Number 6: 92C5469; Supplier 7: Mouser; Supplier Part Number 7: 579-TCM809TVNB713; Mounting Technology: Surface Mount; Code_IPC: SOT23-3; ComponentLink1Description: Manufacturer URL; ComponentLink1URL: http://www.microchip.com/; ComponentLink2Description: Datasheet; ComponentLink2URL: http://ww1.microchip.com/downloads/en/DeviceDoc/21661d.pdf; ComponentLink3Description: Package Specification; ComponentLink3URL: http://www.microchip.com/stellent/groups/techpub_sg/documents/packagingspec/en012702.pdf
footprint SOT-23-NB3_N (SOT23, 3-Leads, Body 2.9x1.3mm, Pitch 0.95mm, Lead Span 2.4mm, IPC Medium Density)
footprint SOT-23-NB3_L (SOT23, 3-Leads, Body 2.9x1.3mm, Pitch 0.95mm, Lead Span 2.4mm, IPC High Density)
footprint SOT-23-NB3_M (SOT23, 3-Leads, Body 2.9x1.3mm, Pitch 0.95mm, Lead Span 2.4mm, IPC Low Density)
pins: 1 GND (power), 2 ~{RST} (out), 3 VDD (power)

## TCM809ZVLB713
designator U?
3-Pin Microcontroller Reset Monitors, 3-Pin SC-70; Manufacturer: Microchip; PartNumber: TCM809ZVLB713; DatasheetVersion: revD, Mar-2005; PackageVersion: revBB, Aug-2009; PackageReference: SC70-LB3; PackageDescription: 3-Lead Plastic Small Outline Transistor (LB) [SC70]; Supplier 1: Digi-Key; Supplier Part Number 1: TCM809ZVLB713TR-ND; Supplier 2: Digi-Key; Supplier Part Number 2: TCM809ZVLB713CT-ND; Supplier 3: Digi-Key; Supplier Part Number 3: TCM809ZVLB713DKR-ND; Supplier 4: Farnell; Supplier Part Number 4: 9762787; Supplier 5: Farnell; Supplier Part Number 5: 9762787RL; Supplier 6: Newark; Supplier Part Number 6: 23M2870; Supplier 7: Mouser; Supplier Part Number 7: 579-TCM809ZVLB713; Mounting Technology: Surface Mount; ComponentLink1Description: Manufacturer URL; ComponentLink1URL: http://www.microchip.com/; ComponentLink2Description: Datasheet; ComponentLink2URL: http://ww1.microchip.com/downloads/en/DeviceDoc/21661d.pdf; ComponentLink3Description: Package Specification; ComponentLink3URL: http://www.microchip.com/stellent/groups/techpub_sg/documents/packagingspec/en012702.pdf
footprint SC70-LB3_N (SOT323, 3-Leads, Body 2.0x1.3mm, Pitch 0.65mm, Lead Span 2.1mm, IPC Medium Density)
footprint SC70-LB3_L (SOT323, 3-Leads, Body 2.0x1.3mm, Pitch 0.65mm, Lead Span 2.1mm, IPC High Density)
footprint SC70-LB3_M (SOT323, 3-Leads, Body 2.0x1.3mm, Pitch 0.65mm, Lead Span 2.1mm, IPC Low Density)
pins: 1 GND (power), 2 ~{RST} (out), 3 VDD (power)

## TCM809ZVNB713
designator U?
3-Pin Microcontroller Reset Monitors, 3-Pin SOT-23; Manufacturer: Microchip; PartNumber: TCM809ZVNB713; DatasheetVersion: revD, Mar-2005; PackageVersion: revBB, Aug-2009; PackageReference: SOT-23-NB3; PackageDescription: 3-Lead Plastic Small Outline Transistor (NB) [SOT-23]; Supplier 1: Digi-Key; Supplier Part Number 1: TCM809ZVNB713TR-ND; Supplier 2: Digi-Key; Supplier Part Number 2: TCM809ZVNB713CT-ND; Supplier 3: Digi-Key; Supplier Part Number 3: TCM809ZVNB713DKR-ND; Supplier 4: Farnell; Supplier Part Number 4: 1840908; Supplier 5: Farnell; Supplier Part Number 5: 1840908RL; Supplier 6: Newark; Supplier Part Number 6: 31T1359; Supplier 7: Newark; Supplier Part Number 7: 68H9553; Supplier 8: Mouser; Supplier Part Number 8: 579-TCM809ZVNB713; Mounting Technology: Surface Mount; Code_IPC: SOT23-3; ComponentLink1Description: Manufacturer URL; ComponentLink1URL: http://www.microchip.com/; ComponentLink2Description: Datasheet; ComponentLink2URL: http://ww1.microchip.com/downloads/en/DeviceDoc/21661d.pdf; ComponentLink3Description: Package Specification; ComponentLink3URL: http://www.microchip.com/stellent/groups/techpub_sg/documents/packagingspec/en012702.pdf
footprint SOT-23-NB3_N (SOT23, 3-Leads, Body 2.9x1.3mm, Pitch 0.95mm, Lead Span 2.4mm, IPC Medium Density)
footprint SOT-23-NB3_L (SOT23, 3-Leads, Body 2.9x1.3mm, Pitch 0.95mm, Lead Span 2.4mm, IPC High Density)
footprint SOT-23-NB3_M (SOT23, 3-Leads, Body 2.9x1.3mm, Pitch 0.95mm, Lead Span 2.4mm, IPC Low Density)
pins: 1 GND (power), 2 ~{RST} (out), 3 VDD (power)

## TCM810JENB713
designator U?
3-Pin Microcontroller Reset Monitors, 3-Pin SOT-23, Extended Temperature; Manufacturer: Microchip; PartNumber: TCM810JENB713; DatasheetVersion: revD, Mar-2005; PackageVersion: revBB, Aug-2009; PackageReference: SOT-23-NB3; PackageDescription: 3-Lead Plastic Small Outline Transistor (NB) [SOT-23]; Supplier 1: Digi-Key; Supplier Part Number 1: TCM810JENB713-ND; Supplier 2: Mouser; Supplier Part Number 2: 579-TCM810JENB713; Mounting Technology: Surface Mount; Code_IPC: SOT23-3; ComponentLink1Description: Manufacturer URL; ComponentLink1URL: http://www.microchip.com/; ComponentLink2Description: Datasheet; ComponentLink2URL: http://ww1.microchip.com/downloads/en/DeviceDoc/21661d.pdf; ComponentLink3Description: Package Specification; ComponentLink3URL: http://www.microchip.com/stellent/groups/techpub_sg/documents/packagingspec/en012702.pdf
footprint SOT-23-NB3_N (SOT23, 3-Leads, Body 2.9x1.3mm, Pitch 0.95mm, Lead Span 2.4mm, IPC Medium Density)
footprint SOT-23-NB3_L (SOT23, 3-Leads, Body 2.9x1.3mm, Pitch 0.95mm, Lead Span 2.4mm, IPC High Density)
footprint SOT-23-NB3_M (SOT23, 3-Leads, Body 2.9x1.3mm, Pitch 0.95mm, Lead Span 2.4mm, IPC Low Density)
pins: 1 GND (power), 2 RST (out), 3 VDD (power)

## TCM810JVLB713
designator U?
3-Pin Microcontroller Reset Monitors, 3-Pin SC-70; Manufacturer: Microchip; PartNumber: TCM810JVLB713; DatasheetVersion: revD, Mar-2005; PackageVersion: revBB, Aug-2009; PackageReference: SC70-LB3; PackageDescription: 3-Lead Plastic Small Outline Transistor (LB) [SC70]; Supplier 1: Digi-Key; Supplier Part Number 1: TCM810JVLB713-ND; Supplier 2: Mouser; Supplier Part Number 2: 579-TCM810JVLB713; Mounting Technology: Surface Mount; ComponentLink1Description: Manufacturer URL; ComponentLink1URL: http://www.microchip.com/; ComponentLink2Description: Datasheet; ComponentLink2URL: http://ww1.microchip.com/downloads/en/DeviceDoc/21661d.pdf; ComponentLink3Description: Package Specification; ComponentLink3URL: http://www.microchip.com/stellent/groups/techpub_sg/documents/packagingspec/en012702.pdf
footprint SC70-LB3_N (SOT323, 3-Leads, Body 2.0x1.3mm, Pitch 0.65mm, Lead Span 2.1mm, IPC Medium Density)
footprint SC70-LB3_L (SOT323, 3-Leads, Body 2.0x1.3mm, Pitch 0.65mm, Lead Span 2.1mm, IPC High Density)
footprint SC70-LB3_M (SOT323, 3-Leads, Body 2.0x1.3mm, Pitch 0.65mm, Lead Span 2.1mm, IPC Low Density)
pins: 1 GND (power), 2 RST (out), 3 VDD (power)

## TCM810JVLB713HH
designator U?
3-Pin Microcontroller Reset Monitors, 3-Pin SC-70; Manufacturer: Microchip; PartNumber: TCM810JVLB713HH; DatasheetVersion: revD, Mar-2005; PackageVersion: revBB, Aug-2009; PackageReference: SC70-LB3; PackageDescription: 3-Lead Plastic Small Outline Transistor (LB) [SC70]; Mounting Technology: Surface Mount; ComponentLink1Description: Manufacturer URL; ComponentLink1URL: http://www.microchip.com/; ComponentLink2Description: Datasheet; ComponentLink2URL: http://ww1.microchip.com/downloads/en/DeviceDoc/21661d.pdf; ComponentLink3Description: Package Specification; ComponentLink3URL: http://www.microchip.com/stellent/groups/techpub_sg/documents/packagingspec/en012702.pdf
footprint SC70-LB3_N (SOT323, 3-Leads, Body 2.0x1.3mm, Pitch 0.65mm, Lead Span 2.1mm, IPC Medium Density)
footprint SC70-LB3_L (SOT323, 3-Leads, Body 2.0x1.3mm, Pitch 0.65mm, Lead Span 2.1mm, IPC High Density)
footprint SC70-LB3_M (SOT323, 3-Leads, Body 2.0x1.3mm, Pitch 0.65mm, Lead Span 2.1mm, IPC Low Density)
pins: 1 GND (power), 2 RST (out), 3 VDD (power)

## TCM810JVNB713
designator U?
3-Pin Microcontroller Reset Monitors, 3-Pin SOT-23; Manufacturer: Microchip; PartNumber: TCM810JVNB713; DatasheetVersion: revD, Mar-2005; PackageVersion: revBB, Aug-2009; PackageReference: SOT-23-NB3; PackageDescription: 3-Lead Plastic Small Outline Transistor (NB) [SOT-23]; Supplier 1: Digi-Key; Supplier Part Number 1: TCM810JVNB713TR-ND; Supplier 2: Digi-Key; Supplier Part Number 2: TCM810JVNB713CT-ND; Supplier 3: Digi-Key; Supplier Part Number 3: TCM810JVNB713DKR-ND; Supplier 4: Farnell; Supplier Part Number 4: 1840921RL; Supplier 5: Farnell; Supplier Part Number 5: 1840921; Supplier 6: Newark; Supplier Part Number 6: 31T1360; Supplier 7: Newark; Supplier Part Number 7: 56J8231; Supplier 8: Mouser; Supplier Part Number 8: 579-TCM810JVNB713; Mounting Technology: Surface Mount; Code_IPC: SOT23-3; ComponentLink1Description: Manufacturer URL; ComponentLink1URL: http://www.microchip.com/; ComponentLink2Description: Datasheet; ComponentLink2URL: http://ww1.microchip.com/downloads/en/DeviceDoc/21661d.pdf; ComponentLink3Description: Package Specification; ComponentLink3URL: http://www.microchip.com/stellent/groups/techpub_sg/documents/packagingspec/en012702.pdf
footprint SOT-23-NB3_N (SOT23, 3-Leads, Body 2.9x1.3mm, Pitch 0.95mm, Lead Span 2.4mm, IPC Medium Density)
footprint SOT-23-NB3_L (SOT23, 3-Leads, Body 2.9x1.3mm, Pitch 0.95mm, Lead Span 2.4mm, IPC High Density)
footprint SOT-23-NB3_M (SOT23, 3-Leads, Body 2.9x1.3mm, Pitch 0.95mm, Lead Span 2.4mm, IPC Low Density)
pins: 1 GND (power), 2 RST (out), 3 VDD (power)

## TCM810LENB713
designator U?
3-Pin Microcontroller Reset Monitors, 3-Pin SOT-23, Extended Temperature; Manufacturer: Microchip; PartNumber: TCM810LENB713; DatasheetVersion: revD, Mar-2005; PackageVersion: revBB, Aug-2009; PackageReference: SOT-23-NB3; PackageDescription: 3-Lead Plastic Small Outline Transistor (NB) [SOT-23]; Supplier 1: Digi-Key; Supplier Part Number 1: TCM810LENB713TR-ND; Supplier 2: Digi-Key; Supplier Part Number 2: TCM810LENB713CT-ND; Supplier 3: Digi-Key; Supplier Part Number 3: TCM810LENB713DKR-ND; Supplier 4: Newark; Supplier Part Number 4: 96K4000; Supplier 5: Mouser; Supplier Part Number 5: 579-TCM810LENB713; Mounting Technology: Surface Mount; Code_IPC: SOT23-3; ComponentLink1Description: Manufacturer URL; ComponentLink1URL: http://www.microchip.com/; ComponentLink2Description: Datasheet; ComponentLink2URL: http://ww1.microchip.com/downloads/en/DeviceDoc/21661d.pdf; ComponentLink3Description: Package Specification; ComponentLink3URL: http://www.microchip.com/stellent/groups/techpub_sg/documents/packagingspec/en012702.pdf
footprint SOT-23-NB3_N (SOT23, 3-Leads, Body 2.9x1.3mm, Pitch 0.95mm, Lead Span 2.4mm, IPC Medium Density)
footprint SOT-23-NB3_L (SOT23, 3-Leads, Body 2.9x1.3mm, Pitch 0.95mm, Lead Span 2.4mm, IPC High Density)
footprint SOT-23-NB3_M (SOT23, 3-Leads, Body 2.9x1.3mm, Pitch 0.95mm, Lead Span 2.4mm, IPC Low Density)
pins: 1 GND (power), 2 RST (out), 3 VDD (power)

## TCM810LVLB713
designator U?
3-Pin Microcontroller Reset Monitors, 3-Pin SC-70; Manufacturer: Microchip; PartNumber: TCM810LVLB713; DatasheetVersion: revD, Mar-2005; PackageVersion: revBB, Aug-2009; PackageReference: SC70-LB3; PackageDescription: 3-Lead Plastic Small Outline Transistor (LB) [SC70]; Supplier 1: Digi-Key; Supplier Part Number 1: TCM810LVLB713TR-ND; Supplier 2: Digi-Key; Supplier Part Number 2: TCM810LVLB713CT-ND; Supplier 3: Digi-Key; Supplier Part Number 3: TCM810LVLB713DKR-ND; Supplier 4: Farnell; Supplier Part Number 4: 1852317; Supplier 5: Newark; Supplier Part Number 5: 31T1361; Supplier 6: Newark; Supplier Part Number 6: 92C5470; Supplier 7: Mouser; Supplier Part Number 7: 579-TCM810LVLB713; Mounting Technology: Surface Mount; ComponentLink1Description: Manufacturer URL; ComponentLink1URL: http://www.microchip.com/; ComponentLink2Description: Datasheet; ComponentLink2URL: http://ww1.microchip.com/downloads/en/DeviceDoc/21661d.pdf; ComponentLink3Description: Package Specification; ComponentLink3URL: http://www.microchip.com/stellent/groups/techpub_sg/documents/packagingspec/en012702.pdf
footprint SC70-LB3_N (SOT323, 3-Leads, Body 2.0x1.3mm, Pitch 0.65mm, Lead Span 2.1mm, IPC Medium Density)
footprint SC70-LB3_L (SOT323, 3-Leads, Body 2.0x1.3mm, Pitch 0.65mm, Lead Span 2.1mm, IPC High Density)
footprint SC70-LB3_M (SOT323, 3-Leads, Body 2.0x1.3mm, Pitch 0.65mm, Lead Span 2.1mm, IPC Low Density)
pins: 1 GND (power), 2 RST (out), 3 VDD (power)

## TCM810LVNB713
designator U?
3-Pin Microcontroller Reset Monitors, 3-Pin SOT-23; Manufacturer: Microchip; PartNumber: TCM810LVNB713; DatasheetVersion: revD, Mar-2005; PackageVersion: revBB, Aug-2009; PackageReference: SOT-23-NB3; PackageDescription: 3-Lead Plastic Small Outline Transistor (NB) [SOT-23]; Supplier 1: Digi-Key; Supplier Part Number 1: TCM810LVNB713TR-ND; Supplier 2: Digi-Key; Supplier Part Number 2: TCM810LVNB713CT-ND; Supplier 3: Digi-Key; Supplier Part Number 3: TCM810LVNB713DKR-ND; Supplier 4: Farnell; Supplier Part Number 4: 1840929; Supplier 5: Farnell; Supplier Part Number 5: 1840929RL; Supplier 6: Newark; Supplier Part Number 6: 31T1362; Supplier 7: Newark; Supplier Part Number 7: 92C5471; Supplier 8: Mouser; Supplier Part Number 8: 579-TCM810LVNB713; Mounting Technology: Surface Mount; Code_IPC: SOT23-3; ComponentLink1Description: Manufacturer URL; ComponentLink1URL: http://www.microchip.com/; ComponentLink2Description: Datasheet; ComponentLink2URL: http://ww1.microchip.com/downloads/en/DeviceDoc/21661d.pdf; ComponentLink3Description: Package Specification; ComponentLink3URL: http://www.microchip.com/stellent/groups/techpub_sg/documents/packagingspec/en012702.pdf
footprint SOT-23-NB3_N (SOT23, 3-Leads, Body 2.9x1.3mm, Pitch 0.95mm, Lead Span 2.4mm, IPC Medium Density)
footprint SOT-23-NB3_L (SOT23, 3-Leads, Body 2.9x1.3mm, Pitch 0.95mm, Lead Span 2.4mm, IPC High Density)
footprint SOT-23-NB3_M (SOT23, 3-Leads, Body 2.9x1.3mm, Pitch 0.95mm, Lead Span 2.4mm, IPC Low Density)
pins: 1 GND (power), 2 RST (out), 3 VDD (power)

## TCM810MENB713
designator U?
3-Pin Microcontroller Reset Monitors, 3-Pin SOT-23, Extended Temperature; Manufacturer: Microchip; PartNumber: TCM810MENB713; DatasheetVersion: revD, Mar-2005; PackageVersion: revBB, Aug-2009; PackageReference: SOT-23-NB3; PackageDescription: 3-Lead Plastic Small Outline Transistor (NB) [SOT-23]; Supplier 1: Digi-Key; Supplier Part Number 1: TCM810MENB713TR-ND; Supplier 2: Digi-Key; Supplier Part Number 2: TCM810MENB713CT-ND; Supplier 3: Newark; Supplier Part Number 3: 14M8239; Supplier 4: Mouser; Supplier Part Number 4: 579-TCM810MENB713; Mounting Technology: Surface Mount; Code_IPC: SOT23-3; ComponentLink1Description: Manufacturer URL; ComponentLink1URL: http://www.microchip.com/; ComponentLink2Description: Datasheet; ComponentLink2URL: http://ww1.microchip.com/downloads/en/DeviceDoc/21661d.pdf; ComponentLink3Description: Package Specification; ComponentLink3URL: http://www.microchip.com/stellent/groups/techpub_sg/documents/packagingspec/en012702.pdf
footprint SOT-23-NB3_N (SOT23, 3-Leads, Body 2.9x1.3mm, Pitch 0.95mm, Lead Span 2.4mm, IPC Medium Density)
footprint SOT-23-NB3_L (SOT23, 3-Leads, Body 2.9x1.3mm, Pitch 0.95mm, Lead Span 2.4mm, IPC High Density)
footprint SOT-23-NB3_M (SOT23, 3-Leads, Body 2.9x1.3mm, Pitch 0.95mm, Lead Span 2.4mm, IPC Low Density)
pins: 1 GND (power), 2 RST (out), 3 VDD (power)